# Altium footprint library HE280PCB.PcbLib: 18 footprints (part 1 of 2)
Each footprint in its own frame and in the unit in brackets; x right, y up, seen from the top. Pads: shape width x height; smd on the part's side, far side on the other; paste and mask are expansions set on the pad; w line width, h text height; cw(c..) or ccw(c..) is an arc to the next point about the centre after c.
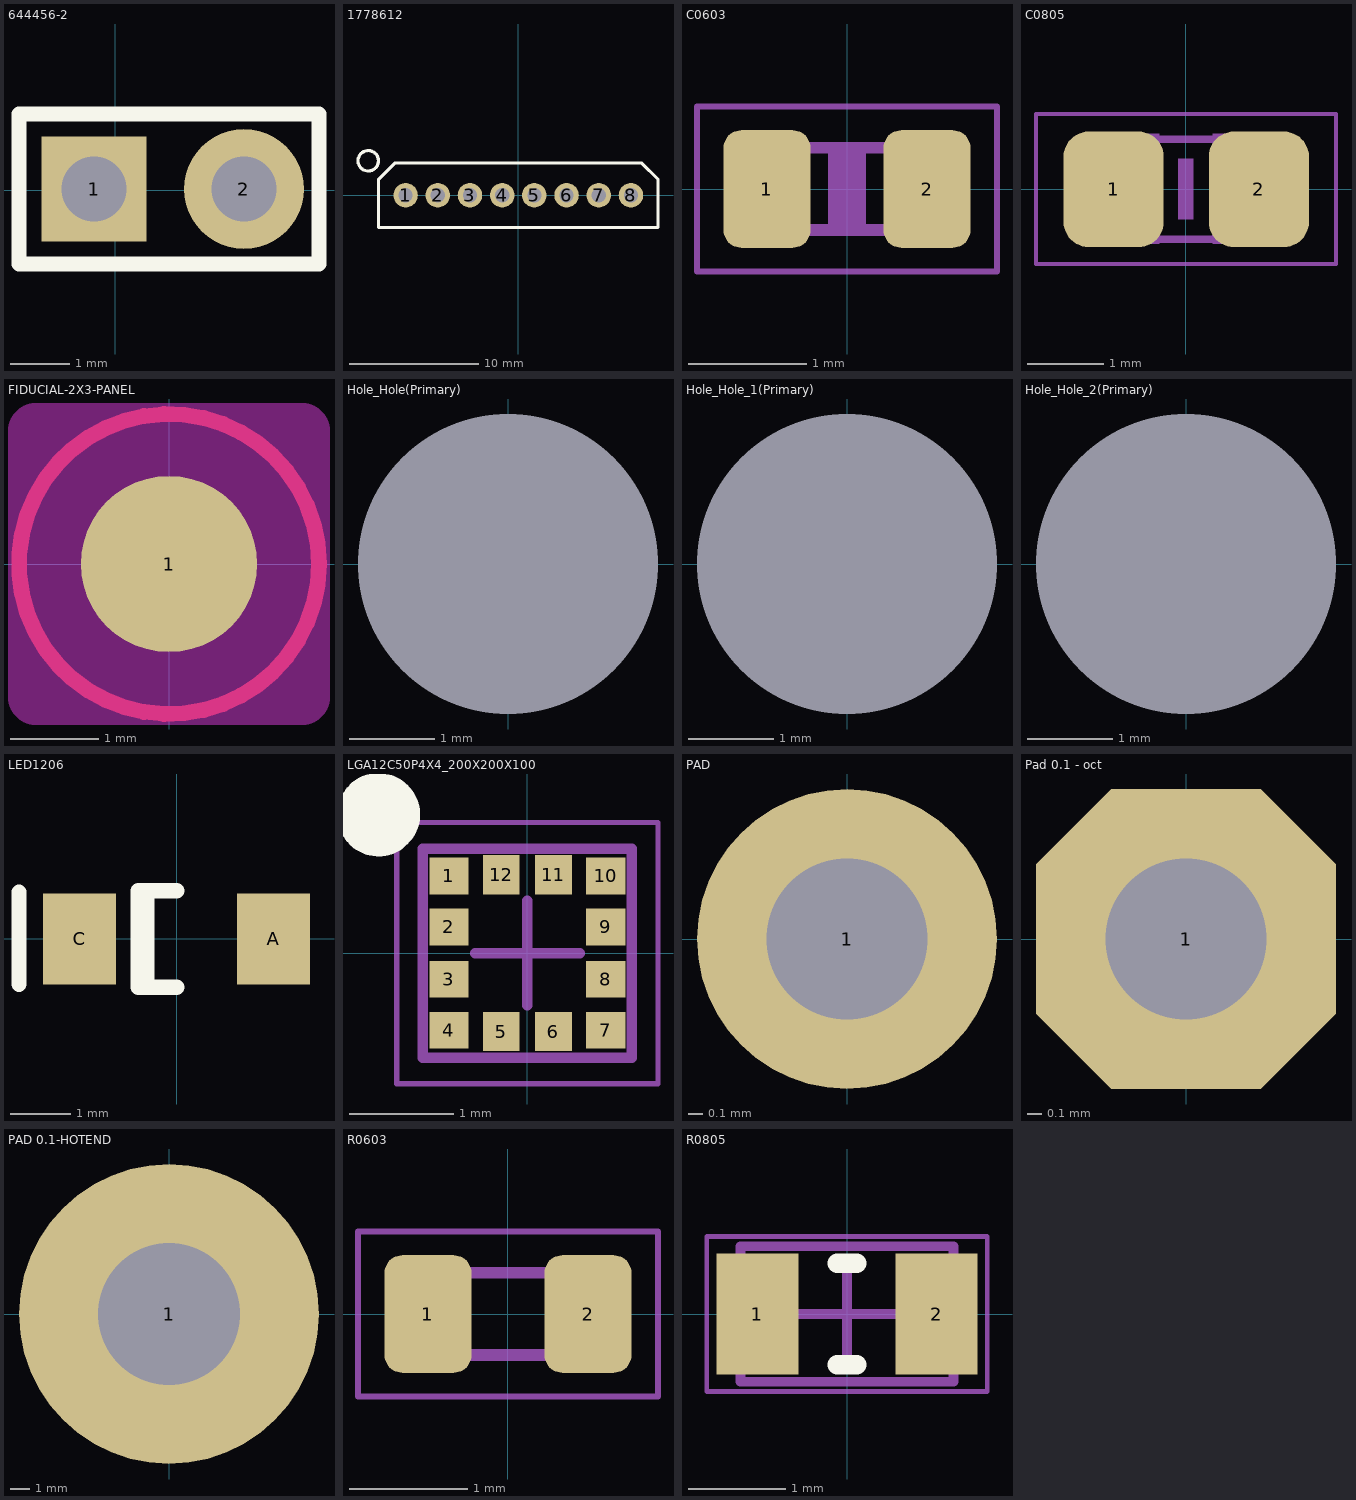
[diagram p0: the footprints below, top view; thin cyan lines are the x and y axes]

## 644456-2 [mil]
pads (2):
  rect 70x70 hole 43.31: 1(-14.25,0.85)
  round 80 hole 43.31: 2(85.75,0.85)
Top Overlay:
  lines w10: -64.26,-49.15 135.76,-49.16 135.77,50.87 -64.26,50.86 -64.26,-49.15

## 1778612 [mm] "Connector 8 pin 2.5mm Pin in Paste"
pads (8):
  round 1.9 hole 1.1 paste-0.05: 1(-8.75,0) 2(-6.25,0) 3(-3.75,0) 4(-1.25,0) 5(1.25,0) 6(3.75,0) 7(6.25,0) 8(8.75,0)
Top Overlay:
  circle w0.254: c-11.65,2.675 r0.795
  lines w0.254: -10.85,0.95 -10.85,1.15 -10.85,1.25 ; -10.85,1.25 -10.85,-2.5 10.85,-2.5 10.85,1.25 9.6,2.5 -9.6,2.5 -10.85,1.25
Top Paste:
  circle w0.9: c8.75,0 r0.45
  circle w0.9: c6.25,0 r0.45
  circle w0.9: c3.75,0 r0.45
  circle w0.9: c1.25,0 r0.45
  circle w0.9: c-1.25,0 r0.45
  circle w0.9: c-3.75,0 r0.45
  circle w0.9: c-6.25,0 r0.45
  circle w0.9: c-8.75,0 r0.45
3D body: height 7.5, standoff 0, extent -10.851,-2.501 10.851,2.501

## C0603 [mm]
height 0.6
pads (2):
  rrect40% 0.74x1 smd: 1(-0.68,0) 2(0.68,0)
Mechanical 6:
  rectangle: -0.16,-0.3 0.16,0.3
Mechanical 8:
  rectangle: -0.8,-0.4 -0.45,0.4
  rectangle: 0.45,-0.4 0.8,0.4
  lines w0.1: -0.45,0.35 0.45,0.35
  lines w0.102: -0.45,-0.35 0.45,-0.35
Mechanical 15:
  lines w0.051: -1.275,-0.7 1.275,-0.7 1.275,0.7 -1.275,0.7 -1.275,-0.7
3D body: height 0.8, standoff 0, extent -0.8,-0.4 0.8,0.4

## C0805 [mil]
pads (2):
  rrect50% 52x60 smd: 1(-37.4,0) 2(38,0)
Mechanical 6:
  rectangle: -3.94,-15.76 4,15.99
Mechanical 8:
  rectangle: -43,-28.51 -13.47,28.99
  rectangle: 14,-28.51 44,28.99
  lines w4: -15,26 15,26 ; -14.02,-25.98 15,-25.98
Mechanical 15:
  lines w2: -77.68,-38.7 78,-38.7 78,39 -77.68,39 -77.68,-38.7
3D body: height 35.43, standoff 0, extent -40,-30 40,30

## FIDUCIAL-2X3-PANEL [mm]
pads (1):
  rrect100% 2x2 smd paste-2.032 mask+0.508: 1(0,0)
Top Layer:
  circle w0.178: c0,0 r1.7
Keep-Out Layer:
  region: -1.5,-1.7 -1.54,-1.7 -1.613,-1.67 -1.67,-1.613 -1.7,-1.54 -1.7,-1.5 -1.7,1.5 -1.7,1.54 -1.67,1.613 -1.613,1.67 -1.54,1.7 -1.5,1.7 1.5,1.7 1.54,1.7 1.613,1.67 1.67,1.613 1.7,1.54 1.7,1.5 1.7,-1.5 1.7,-1.54 1.67,-1.613 1.613,-1.67 1.54,-1.7 1.5,-1.7
  lines w0.254: -1.7,-1.5 ccw(c-1.5,-1.5) -1.5,-1.7 1.5,-1.7 ccw(c1.5,-1.5) 1.7,-1.5 1.7,1.5 ccw(c1.5,1.5) 1.5,1.7 -1.5,1.7 ccw(c-1.5,1.5) -1.7,1.5 -1.7,-1.5
3D body: height 0.02, standoff 0, extent -0.504,-0.507 0.508,0.507
3D body: height 0.01, standoff 0, extent -1.008,-1.014 1.016,1.014

## Hole_Hole(Primary) [mm]
pads (1):
  round 0 hole 3.5 mask-0.254: hole(0,0)

## Hole_Hole_1(Primary) [mm]
pads (1):
  round 0 hole 3.5 mask-0.254: hole(0,0)

## Hole_Hole_2(Primary) [mm]
pads (1):
  round 0 hole 3.5: hole(0,0)

## LED1206 [mm]
pads (2):
  rect 1.2x1.5 smd: A(1.6,0) C(-1.6,0)
Top Overlay:
  lines w0.254: -2.6,-0.749 -2.6,0.775 ; -0.492,-0.799 -0.492,0.799 ; 0,-0.799 -0.635,-0.799 -0.635,0.799 0,0.799
3D body: height 0.26, standoff 0.25, extent -1.275,-0.8 -0.925,0.8
3D body: height 0.75, standoff 0.25, extent -1,-0.8 1.025,0.8
3D body: height 0.25, standoff 0, extent -1.6,-0.8 1.6,0.8

## LGA12C50P4X4_200X200X100 [mm] "LGA, 12-Leads, Body 2.00x2.00mmx1.00mm, Pitch 0.50mm"
height 1
pads (12):
  rect 0.375x0.35 smd paste-0.01 mask+0.102: 1(-0.75,0.738) 2(-0.75,0.25) 3(-0.75,-0.25) 4(-0.75,-0.738) 7(0.75,-0.738) 8(0.75,-0.25) 9(0.75,0.25) 10(0.75,0.738)
  rect 0.35x0.375 smd paste-0.01 mask+0.102: 5(-0.25,-0.75) 6(0.25,-0.75) 11(0.25,0.75) 12(-0.25,0.75)
Top Overlay:
  circle w0.406: c-1.425,1.325 r0.195
Top Solder:
  rectangle: -1.05,-1.05 1.05,1.05
Mechanical 13:
  lines w0.1: -1,-1 1,-1 1,1 -1,1 -1,-1
Mechanical 15:
  lines w0.05: -1.25,-1.25 1.25,-1.25 1.25,1.25 -1.25,1.25 -1.25,-1.25
  lines w0.1: -0.5,0 0.5,0 ; 0,-0.5 0,0.5
3D body: height 1, standoff 0.2, extent -1,-1 1,1

## PAD [mil]
pads (1):
  round 80 hole 43: 1(0,0)

## Pad 0.1 - oct [mil]
pads (1):
  oct 80x80 hole 43: 1(0,0)
3D body: height 1, standoff 0, extent -10,-10 10,10

## PAD 0.1-HOTEND [mil]
pads (1):
  round 600 / inner round 600 / far side round 393.7 hole 283.5: 1(0,0)
3D body: height 1, standoff 0, extent -10,-10 10,10
3D body: height 0.01, standoff 0, extent -299.99,-299.91 300.01,299.92

## PCBComponent_1 [mm]

## R0603 [mm]
pads (2):
  rrect40% 0.74x1 smd: 1(-0.68,0) 2(0.68,0)
Mechanical 8:
  rectangle: -0.8,-0.4 -0.45,0.4
  rectangle: 0.45,-0.4 0.8,0.4
  lines w0.1: -0.45,0.35 0.45,0.35
  lines w0.102: -0.45,-0.35 0.45,-0.35
Mechanical 15:
  lines w0.051: -1.275,-0.7 1.275,-0.7 1.275,0.7 -1.275,0.7 -1.275,-0.7
3D body: height 0.8, standoff 0, extent -0.8,-0.4 0.8,0.4

## R0805 [mm]
height 0.5
pads (2):
  rect 0.85x1.25 smd: 1(-0.925,0) 2(0.925,0)
Top Overlay:
  lines w0.2: -0.1,-0.525 0.1,-0.525 ; -0.1,0.525 0.1,0.525
Mechanical 13:
  lines w0.1: -1.1,-0.7 1.1,-0.7 1.1,0.7 -1.1,0.7 -1.1,-0.7
Mechanical 15:
  lines w0.05: -1.45,-0.8 1.45,-0.8 1.45,0.8 -1.45,0.8 -1.45,-0.8
  lines w0.1: -0.5,0 0.5,0 ; 0,-0.5 0,0.5
3D body: height 0.5, standoff 0, extent 0.75,-0.7 1.1,0.7
3D body: height 0.5, standoff 0, extent -1.1,-0.7 -0.75,0.7
3D body: height 0.5, standoff 0, extent -0.75,-0.7 0.75,0.7